# Altium footprint library TL3200AF160GRQ.PcbLib: 1 footprints
Each footprint in its own frame and in the unit in brackets; x right, y up, seen from the top. Pads: shape width x height; smd on the part's side, far side on the other; paste and mask are expansions set on the pad; w line width, h text height; cw(c..) or ccw(c..) is an arc to the next point about the centre after c.
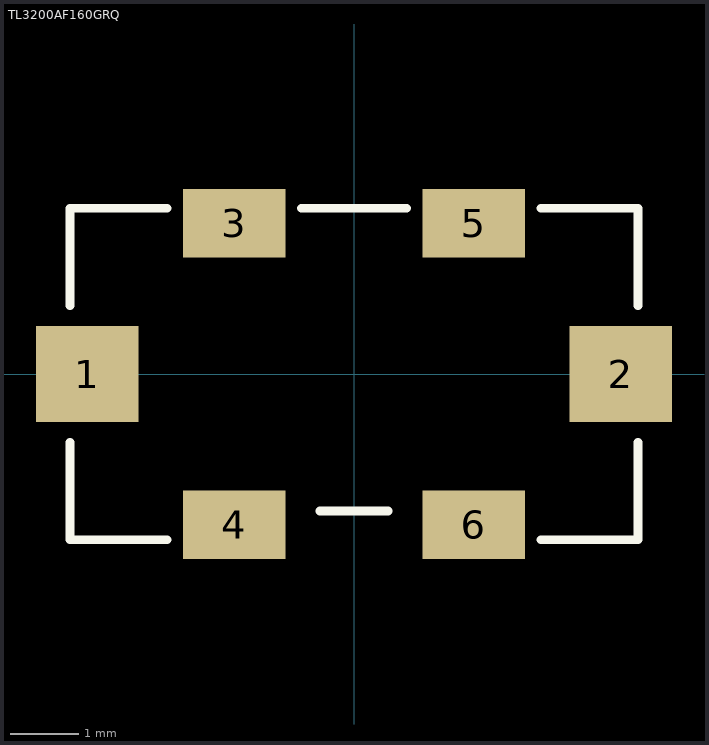
[diagram p0: the footprint, top view; thin cyan lines are the x and y axes]

## TL3200AF160GRQ [mm]
pads (6):
  rect 1.5x1.4 smd: 1(-3.9,0) 2(3.9,0)
  rect 1.5x1 smd: 3(-1.75,2.2) 4(-1.75,-2.2) 5(1.75,2.2) 6(1.75,-2.2)
Top Overlay:
  lines w0.127: -4.15,-1 -4.15,-2.423 -2.727,-2.423 ; -4.15,1 -4.15,2.423 -2.727,2.423 ; -0.773,2.423 0.773,2.423 ; -0.5,-2.001 0.5,-2.001 ; 2.727,-2.423 4.15,-2.423 4.15,-1 ; 2.727,2.423 4.15,2.423 4.15,1
3D body "TL3200AF160xxQ.stp": height 2.5, standoff -0.01, extent -4,-2.25 4,2.25